# Altium schematic symbol library SHOCK-M-306-114.SchLib: 1 symbol
Pins are listed as number, name and electrical type; pins without a type are passive.

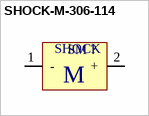
[diagram p0: symbol SHOCK-M-306-114]

## SHOCK-M-306-114
designator SM ?  (value not drawn)
SHOCK MOTOR 306-114
pins: 1 -, 2 +
text: SHOCK; M